# Altium footprint library CAP_SMD_ALU.PcbLib: 25 footprints (part 2 of 2)
Each footprint in its own frame and in the unit in brackets; x right, y up, seen from the top. Pads: shape width x height; smd on the part's side, far side on the other; paste and mask are expansions set on the pad; w line width, h text height; cw(c..) or ccw(c..) is an arc to the next point about the centre after c.
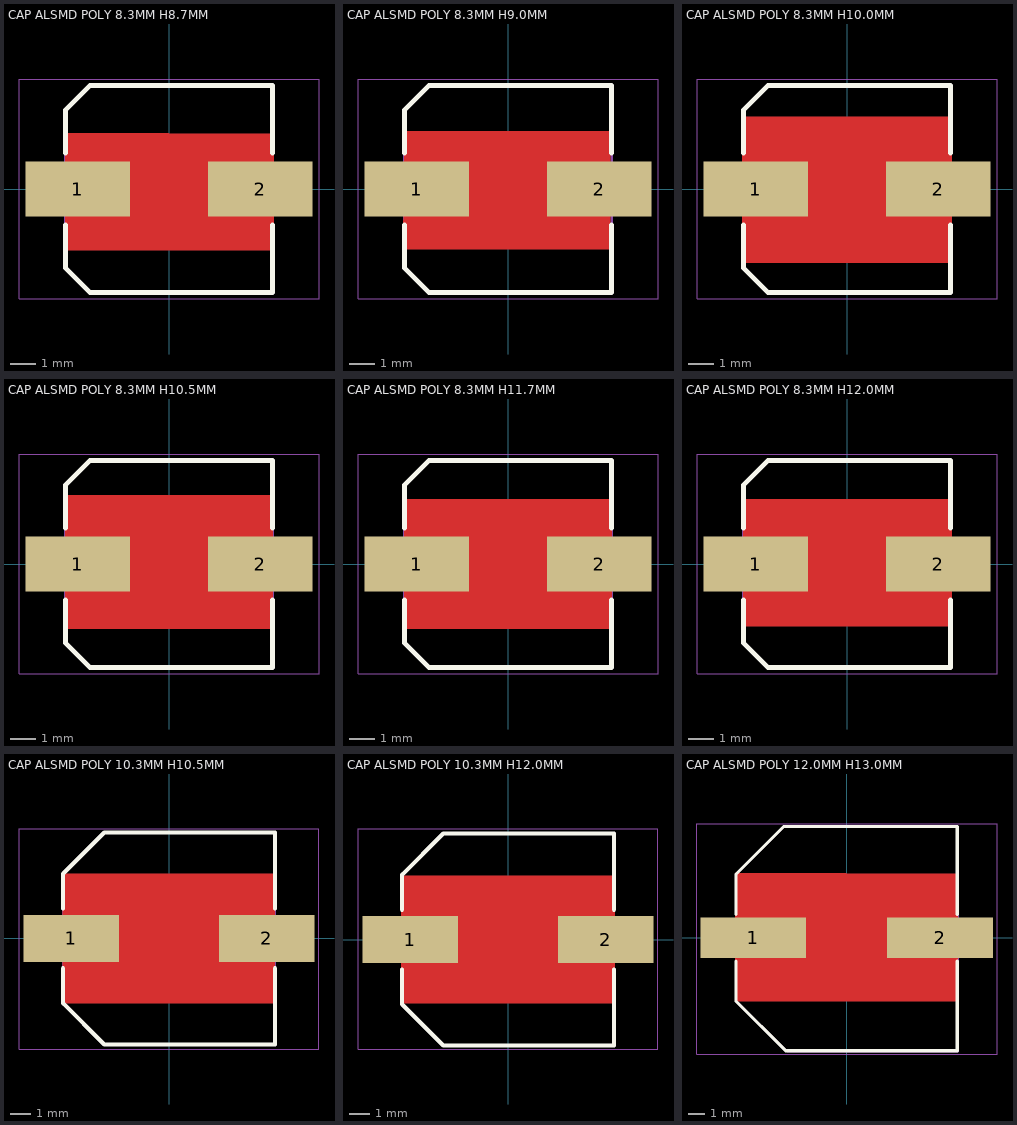
[diagram p1: the footprints below, top view; thin cyan lines are the x and y axes]

## CAP ALSMD POLY 8.3MM H8.7MM [mm] "Aluminum Electrolytic Capacitor, Body 8.30x8.30x8.7mm"
height 8.7
pads (2):
  rect 4.2x2.2 smd: 1(-3.65,0) 2(3.65,0)
Top Layer:
  pour cut-out: -4.2,2.25 -4.15,2.25 -4.15,-2.45 4.2,-2.45 4.2,2.2
Top Overlay:
  lines w0.2: -4.15,-1.45 -4.15,-3.151 -3.151,-4.15 4.15,-4.15 4.15,-1.45 ; -4.15,1.45 -4.15,3.151 -3.151,4.15 4.15,4.15 4.15,1.45
Mechanical 13:
  lines w0.1: -4.15,-3.15 -3.15,-4.15 4.15,-4.15 4.15,4.15 -3.15,4.15 -4.15,3.15 -4.15,-3.15
Mechanical 15:
  lines w0.05: -6,-4.4 -6,4.4 6,4.4 6,-4.4 -6,-4.4
  lines w0.1: -0.5,0 0.5,0 ; 0,-0.5 0,0.5
3D body "CAP ALSMD - POLY - 8.3 x 8.3 x 8.7.step": height 8.7, standoff 0, extent -4.5,-4.15 4.5,4.15

## CAP ALSMD POLY 8.3MM H9.0MM [mm] "Aluminum Electrolytic Capacitor, Body 8.30x8.30x9.0mm"
height 9
pads (2):
  rect 4.2x2.2 smd: 1(-3.65,0) 2(3.65,0)
Top Layer:
  pour cut-out: -4.15,2.3 4.1,2.3 4.1,-2.4 -4.2,-2.4
Top Overlay:
  lines w0.2: -4.15,-1.45 -4.15,-3.151 -3.151,-4.15 4.15,-4.15 4.15,-1.45 ; -4.15,1.45 -4.15,3.151 -3.151,4.15 4.15,4.15 4.15,1.45
Mechanical 13:
  lines w0.1: -4.15,-3.15 -4.15,3.15 -3.15,4.15 4.15,4.15 4.15,-4.15 -3.15,-4.15 -4.15,-3.15
Mechanical 15:
  lines w0.05: -6,-4.4 6,-4.4 6,4.4 -6,4.4 -6,-4.4
  lines w0.1: -0.5,0 0.5,0 ; 0,-0.5 0,0.5
3D body "CAP ALSMD - POLY - 8.3 x 8.3 x 9.0.step": height 9, standoff 0, extent -4.5,-4.15 4.5,4.15

## CAP ALSMD POLY 8.3MM H10.0MM [mm] "Aluminum Electrolytic Capacitor, Body 8.30x8.30x10.0mm"
height 10
pads (2):
  rect 4.2x2.2 smd: 1(-3.65,0) 2(3.65,0)
Top Layer:
  pour cut-out: -4.2,2.9 -4.2,-2.95 4.2,-2.95 4.2,2.9
Top Overlay:
  lines w0.2: -4.15,-1.45 -4.15,-3.151 -3.151,-4.15 4.15,-4.15 4.15,-1.45 ; -4.15,1.45 -4.15,3.151 -3.151,4.15 4.15,4.15 4.15,1.45
Mechanical 13:
  lines w0.1: -4.15,-3.15 -4.15,3.15 -3.15,4.15 4.15,4.15 4.15,-4.15 -3.15,-4.15 -4.15,-3.15
Mechanical 15:
  lines w0.05: -6,-4.4 6,-4.4 6,4.4 -6,4.4 -6,-4.4
  lines w0.1: -0.5,0 0.5,0 ; 0,-0.5 0,0.5
3D body "CAP ALSMD - POLY - 8.3 x 8.3 x 10.0.step": height 10, standoff 0, extent -4.5,-4.15 4.5,4.15

## CAP ALSMD POLY 8.3MM H10.5MM [mm] "Aluminum Electrolytic Capacitor, Body 8.30x8.30x10.5mm"
height 10.5
pads (2):
  rect 4.2x2.2 smd: 1(-3.65,0) 2(3.65,0)
Top Layer:
  pour cut-out: -4.15,2.75 4.15,2.75 4.15,-2.6 -4.15,-2.6
Top Overlay:
  lines w0.2: -4.15,-1.45 -4.15,-3.151 -3.151,-4.15 4.15,-4.15 4.15,-1.45 ; -4.15,1.45 -4.15,3.151 -3.151,4.15 4.15,4.15 4.15,1.45
Mechanical 13:
  lines w0.1: -4.15,-3.15 -3.15,-4.15 4.15,-4.15 4.15,4.15 -3.15,4.15 -4.15,3.15 -4.15,-3.15
Mechanical 15:
  lines w0.05: -6,-4.4 -6,4.4 6,4.4 6,-4.4 -6,-4.4
  lines w0.1: -0.5,0 0.5,0 ; 0,-0.5 0,0.5
3D body "CAP ALSMD - POLY - 8.3 x 8.3 x 10.5.step": height 10.5, standoff 0, extent -4.5,-4.15 4.5,4.15

## CAP ALSMD POLY 8.3MM H11.7MM [mm] "Aluminum Electrolytic Capacitor, Body 8.30x8.30x11.7mm"
height 11.7
pads (2):
  rect 4.2x2.2 smd: 1(-3.65,0) 2(3.65,0)
Top Layer:
  pour cut-out: -4.15,2.6 4.15,2.6 4.15,-2.6 -4.15,-2.6
Top Overlay:
  lines w0.2: -4.15,-1.45 -4.15,-3.151 -3.151,-4.15 4.15,-4.15 4.15,-1.45 ; -4.15,1.45 -4.15,3.151 -3.151,4.15 4.15,4.15 4.15,1.45
Mechanical 13:
  lines w0.1: -4.15,-3.15 -4.15,3.15 -3.15,4.15 4.15,4.15 4.15,-4.15 -3.15,-4.15 -4.15,-3.15
Mechanical 15:
  lines w0.05: -6,-4.4 6,-4.4 6,4.4 -6,4.4 -6,-4.4
  lines w0.1: -0.5,0 0.5,0 ; 0,-0.5 0,0.5
3D body "CAP ALSMD - POLY - 8.3 x 8.3 x 11.7.step": height 11.7, standoff 0, extent -4.5,-4.15 4.5,4.15

## CAP ALSMD POLY 8.3MM H12.0MM [mm] "Aluminum Electrolytic Capacitor, Body 8.30x8.30x12mm"
height 12
pads (2):
  rect 4.2x2.2 smd: 1(-3.65,0) 2(3.65,0)
Top Layer:
  pour cut-out: -4.15,2.6 -4.15,-2.5 4.2,-2.5 4.2,2.6
Top Overlay:
  lines w0.2: -4.15,-1.45 -4.15,-3.151 -3.151,-4.15 4.15,-4.15 4.15,-1.45 ; -4.15,1.45 -4.15,3.151 -3.151,4.15 4.15,4.15 4.15,1.45
Mechanical 13:
  lines w0.1: -4.15,-3.15 -4.15,3.15 -3.15,4.15 4.15,4.15 4.15,-4.15 -3.15,-4.15 -4.15,-3.15
Mechanical 15:
  lines w0.05: -6,-4.4 6,-4.4 6,4.4 -6,4.4 -6,-4.4
  lines w0.1: -0.5,0 0.5,0 ; 0,-0.5 0,0.5
3D body "CAP ALSMD - POLY - 8.3 x 8.3 x 12.0.step": height 12, standoff 0, extent -4.5,-4.15 4.5,4.15

## CAP ALSMD POLY 10.3MM H10.5MM [mm] "Aluminum Electrolytic Capacitor, Body 10.30x10.30x10.50mm, IPC Low Density"
height 10.5
pads (2):
  rect 4.65x2.3 smd: 1(-4.75,0) 2(4.75,0)
Top Layer:
  pour cut-out: -5.2,3.15 5.15,3.15 5.15,-3.15 -5.15,-3.15
Top Overlay:
  lines w0.2: -5.15,-1.45 -5.15,-3.15 -3.15,-5.15 5.15,-5.15 5.15,-1.45 ; -5.15,1.45 -5.15,3.15 -3.15,5.15 5.15,5.15 5.15,1.45
Mechanical 13:
  lines w0.1: -5.15,-3.15 -3.15,-5.15 5.15,-5.15 5.15,5.15 -3.15,5.15 -5.15,3.15 -5.15,-3.15
Mechanical 15:
  lines w0.05: -7.3,-5.4 -7.3,5.35 7.3,5.35 7.3,-5.4 -7.3,-5.4
  lines w0.1: -0.5,0 0.5,0 ; 0,-0.5 0,0.5
3D body "CAP ALUM 10_3mm.STEP": height 10.5, standoff 0, extent -5.8,-5.15 5.8,5.15

## CAP ALSMD POLY 10.3MM H12.0MM [mm] "Aluminum Electrolytic Capacitor, Body 10.30x10.30x12.00mm, IPC Low Density"
height 12
pads (2):
  rect 4.65x2.3 smd: 1(-4.75,0) 2(4.75,0)
Top Layer:
  pour cut-out: -5.2,3.1 -5.2,-3.1 5.2,-3.1 5.2,3.1
Top Overlay:
  lines w0.2: -5.15,-1.45 -5.15,-3.15 -3.15,-5.15 5.15,-5.15 5.15,-1.45 ; -5.15,1.45 -5.15,3.15 -3.15,5.15 5.15,5.15 5.15,1.45
Mechanical 13:
  lines w0.1: -5.15,-3.15 -5.15,3.15 -3.15,5.15 5.15,5.15 5.15,-5.15 -3.15,-5.15 -5.15,-3.15
Mechanical 15:
  lines w0.05: -7.3,-5.35 7.3,-5.35 7.3,5.4 -7.3,5.4 -7.3,-5.35
  lines w0.1: -0.5,0 0.5,0 ; 0,-0.5 0,0.5
3D body "10x12.4x4.5.stp": height 12.45, standoff 0.05, extent -5.539,-5.141 5.461,5.159

## CAP ALSMD POLY 12.0MM H13.0MM [mm] "Aluminum Electrolytic Capacitor, Body 12.0x12.0x13.00mm, IPC Low Density"
height 13
pads (2):
  rect 6.5x2.5 smd: 1(-5.75,0) 2(5.75,0)
Top Layer:
  pour cut-out: -6.85,4 -6.85,-3.9 6.85,-3.9 6.85,3.95
Top Overlay:
  lines w0.2: -6.8,-1.45 -6.8,-3.9 -3.75,-6.95 6.8,-6.95 6.8,-1.45 ; -6.8,1.45 -6.8,3.9 -3.85,6.85 6.8,6.85 6.8,1.45
Mechanical 13:
  lines w0.1: -6.8,-3.85 -6.8,3.9 -3.9,6.8 6.85,6.8 6.85,-7 -3.65,-7 -6.8,-3.85
Mechanical 15:
  lines w0.05: -9.2,-7.15 -9.2,7 9.25,7 9.25,-7.15 -9.2,-7.15
  lines w0.1: -0.5,0 0.5,0 ; 0,-0.5 0,0.5
3D body "User Library-ALU-H16.step": height 17, standoff 0, extent -7.75,-6.918 7.75,6.782